# Altium schematic symbol library MOS管.SCHLIB: 8 symbols
Pins are listed as number, name and electrical type; pins without a type are passive.

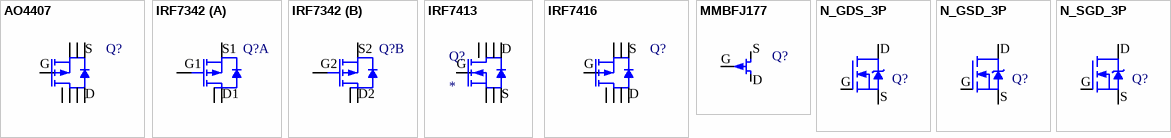
[diagram p0: symbols AO4407 to N_SGD_3P]

## AO4407
designator Q?
pins: 1 S, 2 S, 3 S, 4 G, 5 D, 6 D, 7 D, 8 D

## IRF7342
designator Q?
part A pins: 1 S, 2 G, 7 D, 8 D
part B pins: 3 S, 4 G, 5 D, 6 D
part A text: S1; G1; D1
part B text: S2; G2; D2

## IRF7413
designator Q?
pins: 1 S, 2 S, 3 S, 4 G, 5 D, 6 D, 7 D, 8 D

## IRF7416
designator Q?
pins: 1 S, 2 S, 3 S, 4 G, 5 D, 6 D, 7 D, 8 D

## MMBFJ177
designator Q?
pins: 1 S, 2 D, 3 G

## N_GDS_3P
designator Q?
pins: 1 G, 2 D, 3 S

## N_GSD_3P
designator Q?
pins: 1 G, 2 S, 3 D

## N_SGD_3P
designator Q?
pins: 1 S, 2 G, 3 D